# EAGLE library part MCP3550/1/3 (library microchip_adc)
mcp 3550/1/3 3550 3551 3553
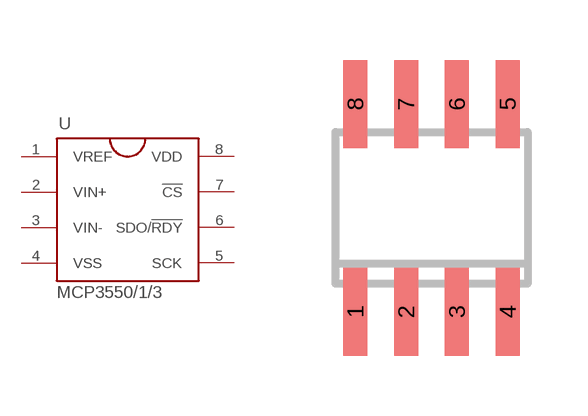
[diagram p0: symbol with the pads of SO8; footprint SO8]

Designator prefix -

## MCP3550/1/3  [SO8]
1  VREF
2  VIN+
3  VIN-
4  VSS
5  SCK
6  SDO/!RDY
7  !CS
8  VDD

## Footprint SO8 (pad centres in mm)
smd 0.6 x 2.2: 1 -1.905,-2.6; 2 -0.635,-2.6; 3 0.635,-2.6; 4 1.905,-2.6; 5 1.905,2.6; 6 0.635,2.6; 7 -0.635,2.6; 8 -1.905,2.6